# Altium footprint library MODULE.PcbLib: 1 footprints
Each footprint in its own frame and in the unit in brackets; x right, y up, seen from the top. Pads: shape width x height; smd on the part's side, far side on the other; paste and mask are expansions set on the pad; w line width, h text height; cw(c..) or ccw(c..) is an arc to the next point about the centre after c.
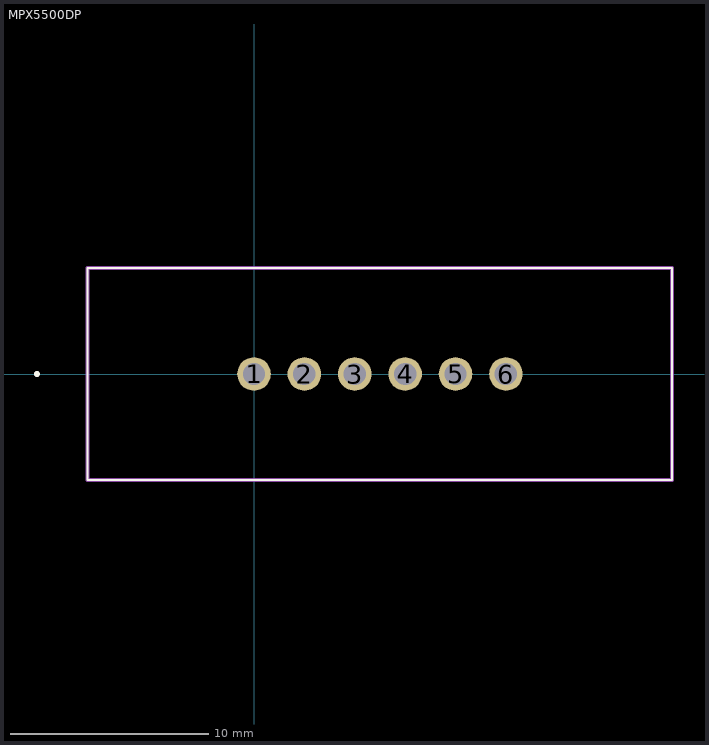
[diagram p0: the footprint, top view; thin cyan lines are the x and y axes]

## MPX5500DP [mm]
pads (6):
  round 1.695 hole 1.13: 1(0,0) 2(2.54,0) 3(5.08,0) 4(7.62,0) 5(10.16,0) 6(12.7,0)
Top Overlay:
  lines w0.1: -8.383,-5.335 -8.383,5.335 21.082,5.335 21.082,-5.335 -8.383,-5.335
  lines w0.2: -11,0 ccw(c-10.95,0) -10.9,0 ; -11,0 cw(c-10.95,0) -10.9,0 ; -11,0 ccw(c-10.95,0) -10.9,0
Mechanical 15:
  lines w0.2: -8.383,-5.335 -8.383,5.335 21.082,5.335 21.082,-5.335 -8.383,-5.335
Mechanical 29:
  text "'.Designator'" at -3.073,-0.508 h1.52
3D body "MPX5500DP.stp": height 32.58, standoff -6.1, extent -8.407,-5.765 21.058,5.69